# Altium schematic symbol library BMS-TEMPSTRIP.schlib: 2 symbols
Pins are listed as number, name and electrical type; pins without a type are passive.

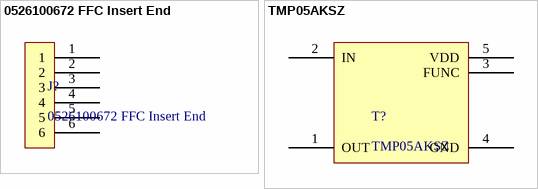
[diagram p0: symbols 0526100672 FFC Insert End to TMP05AKSZ]

## 0526100672 FFC Insert End
designator J?
footprint 0526100672 FFC Insert End
pins: 1, 2, 3, 4, 5, 6

## TMP05AKSZ
designator T?
Temperature Sensor, SMD, 3.3V, 2%, SOT-353
footprint SC-70 (KS-5)
pins: 1 OUT, 2 IN, 3 FUNC, 4 GND, 5 VDD